# EAGLE library part ATMEGA32A-PU (library ATMEGA32A-PU)
8-bit Microcontrollers - MCU 32KB In-system Flash 2.7V - 5.5V Source: Datasheet <http://www.mouser.com/ds/2/268/Atmel-8155-8-bit-Microcontroller-AVR-ATmega32A_Dat-1065737.pdf>
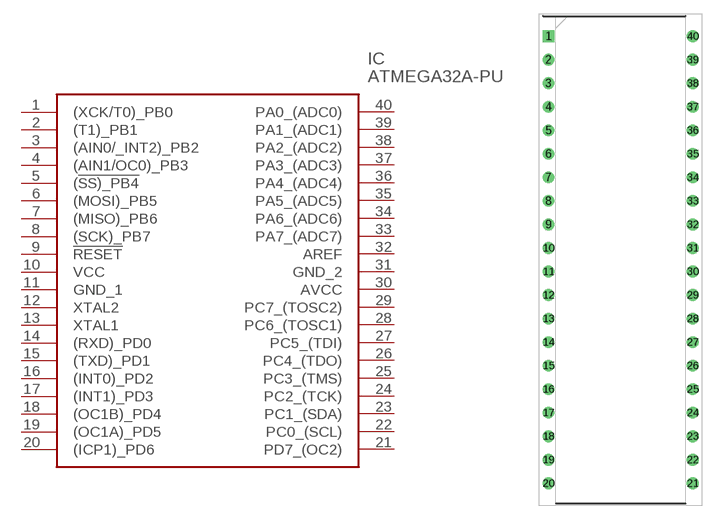
[diagram p0: symbol with the pads of DIP1556W56P254L5232H483Q40N; footprint DIP1556W56P254L5232H483Q40N]

Designator prefix IC

## ATMEGA32A-PU (Arrow_Part_Number: ATMEGA32A-PU; Arrow_Price-Stock: https://www.arrow.com/en/products/atmega32a-pu/microchip-technology?region=nac; Description: 8-bit Microcontrollers - MCU 32KB In-system Flash 2.7V - 5.5V; Height: 4.826mm; Manufacturer_Name: Microchip; Manufacturer_Part_Number: ATMEGA32A-PU; Mouser_Part_Number: 556-ATMEGA32A-PU; Mouser_Price-Stock: https://www.mouser.co.uk/ProductDetail/Microchip-Technology/ATMEGA32A-PU?qs=6WoM%2FY8vMbadJ8khIfKCsQ%3D%3D)  [DIP1556W56P254L5232H483Q40N]
1  (XCK/T0)_PB0
2  (T1)_PB1
3  (AIN0/_INT2)_PB2
4  (AIN1/OC0)_PB3
5  (!SS)_PB4
6  (MOSI)_PB5
7  (MISO)_PB6
8  (SCK)_PB7
9  !RESET
10  VCC
11  GND_1
12  XTAL2
13  XTAL1
14  (RXD)_PD0
15  (TXD)_PD1
16  (INT0)_PD2
17  (INT1)_PD3
18  (OC1B)_PD4
19  (OC1A)_PD5
20  (ICP1)_PD6
21  PD7_(OC2)
22  PC0_(SCL)
23  PC1_(SDA)
24  PC2_(TCK)
25  PC3_(TMS)
26  PC4_(TDO)
27  PC5_(TDI)
28  PC6_(TOSC1)
29  PC7_(TOSC2)
30  AVCC
31  GND_2
32  AREF
33  PA7_(ADC7)
34  PA6_(ADC6)
35  PA5_(ADC5)
36  PA4_(ADC4)
37  PA3_(ADC3)
38  PA2_(ADC2)
39  PA1_(ADC1)
40  PA0_(ADC0)

## Footprint DIP1556W56P254L5232H483Q40N (pad centres in mm)
40P6
drill 0.759 pad 1.159 square: 1 -7.779,24.13
drill 0.759 pad 1.159: 2 -7.779,21.59; 3 -7.779,19.05; 4 -7.779,16.51; 5 -7.779,13.97; 6 -7.779,11.43; 7 -7.779,8.89; 8 -7.779,6.35; 9 -7.779,3.81; 10 -7.779,1.27; 11 -7.779,-1.27; 12 -7.779,-3.81; 13 -7.779,-6.35; 14 -7.779,-8.89; 15 -7.779,-11.43; 16 -7.779,-13.97; 17 -7.779,-16.51; 18 -7.779,-19.05; 19 -7.779,-21.59; 20 -7.779,-24.13; 21 7.779,-24.13; 22 7.779,-21.59; 23 7.779,-19.05; 24 7.779,-16.51; 25 7.779,-13.97; 26 7.779,-11.43; 27 7.779,-8.89; 28 7.779,-6.35; 29 7.779,-3.81; 30 7.779,-1.27; 31 7.779,1.27; 32 7.779,3.81; 33 7.779,6.35; 34 7.779,8.89; 35 7.779,11.43; 36 7.779,13.97; 37 7.779,16.51; 38 7.779,19.05; 39 7.779,21.59; 40 7.779,24.13